# Altium footprint library Transducer.PcbLib: 1 footprints
Each footprint in its own frame and in the unit in brackets; x right, y up, seen from the top. Pads: shape width x height; smd on the part's side, far side on the other; paste and mask are expansions set on the pad; w line width, h text height; cw(c..) or ccw(c..) is an arc to the next point about the centre after c.
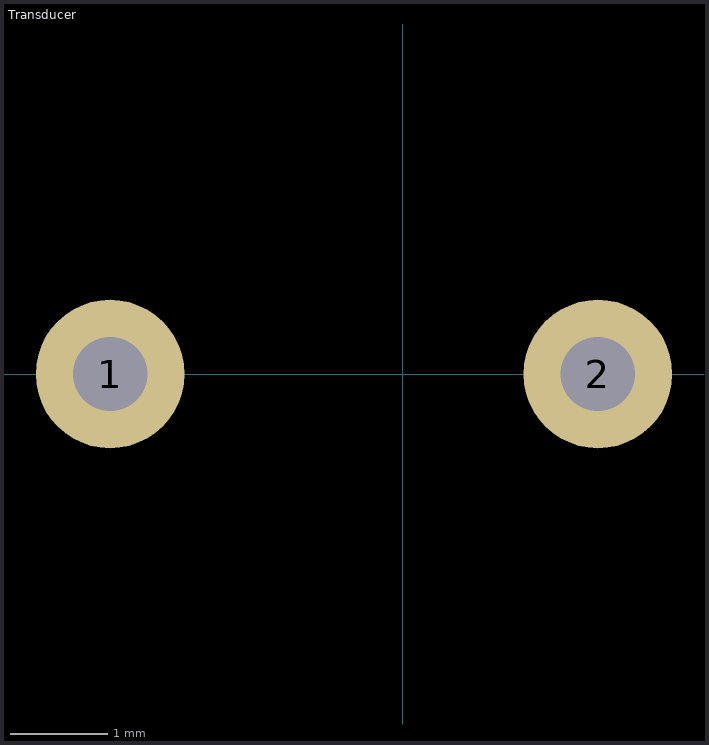
[diagram p0: the footprint, top view; thin cyan lines are the x and y axes]

## Transducer [mil]
pads (2):
  round 60 hole 30: 1(-118.11,0) 2(78.74,0)
3D body: height 354.33, standoff 0, extent -196.84,-196.84 196.86,196.86